# EAGLE library part SN65C1168ERGYR (library ruark2)
2/2 Transceiver Full RS422, RS485 16-VQFN (4x3.5)
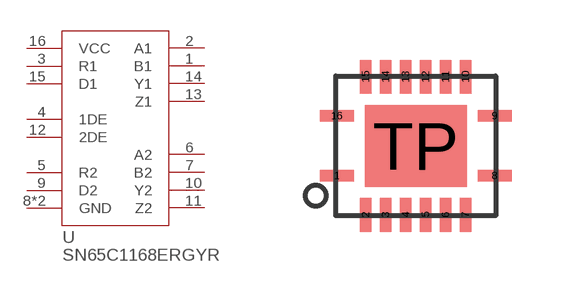
[diagram p200: symbol with the pads of PVQFN16; footprint PVQFN16]

Designator prefix U

## SN65C1168ERGYR (PARTNO: 296-21803-1-ND)  [PVQFN16]
1  B1
2  A1
3  R1
4  1DE
5  R2
6  A2
7  B2
8  GND
9  D2
10  Y2
11  Z2
12  2DE
13  Z1
14  Y1
15  D1
16  VCC
TP  GND

## Footprint PVQFN16 (pad centres in mm)
smd 0.85 x 0.28: 1 -1.975,-0.75; 8 1.975,-0.75; 9 1.975,0.75; 16 -1.975,0.75
smd 0.28 x 0.85: 2 -1.25,-1.725; 3 -0.75,-1.725; 4 -0.25,-1.725; 5 0.25,-1.725; 6 0.75,-1.725; 7 1.25,-1.725; 10 1.25,1.725; 11 0.75,1.725; 12 0.25,1.725; 13 -0.25,1.725; 14 -0.75,1.725; 15 -1.25,1.725
smd 2.55 x 2.05: TP 0,0